# Altium footprint library Pixy2PCBLib.PcbLib: 17 footprints (part 1 of 2)
Each footprint in its own frame and in the unit in brackets; x right, y up, seen from the top. Pads: shape width x height; smd on the part's side, far side on the other; paste and mask are expansions set on the pad; w line width, h text height; cw(c..) or ccw(c..) is an arc to the next point about the centre after c.
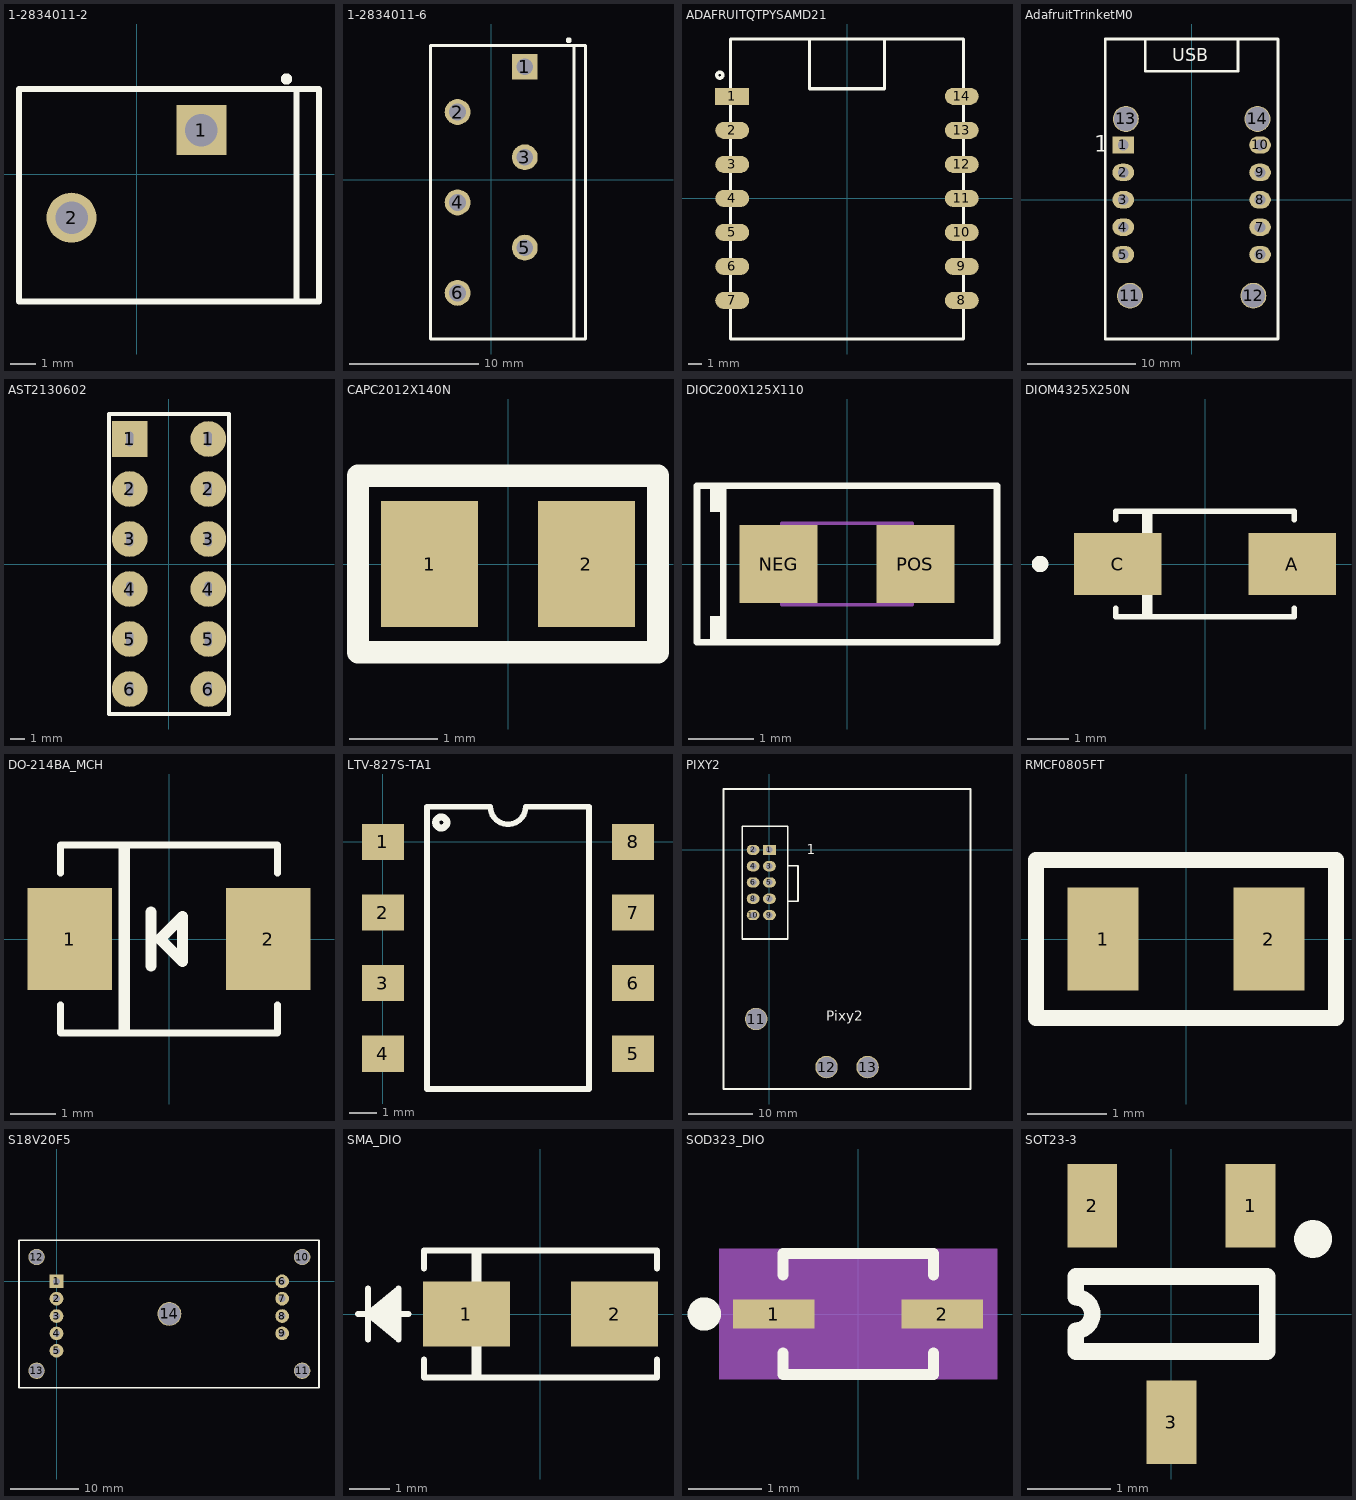
[diagram p0: the footprints below, top view; thin cyan lines are the x and y axes]

## 1-2834011-2 [mm]
pads (2):
  rect 2x2 hole 1.3: 1(2.6,1.75)
  round 2 hole 1.3: 2(-2.6,-1.75)
Top Overlay:
  circle w0.254: c6,3.8 r0.1
  lines w0.254: 6.4,-5.1 6.4,3.4 ; -4.7,-5.1 7.3,-5.1 7.3,3.4 -4.7,3.4 -4.7,-5.1
3D body "c-1-2834011-2-2-3d.stp": height 12.94, standoff -3.49, extent -4.7,-5.15 7.3,3.35

## 1-2834011-6 [mm]
pads (6):
  rect 2x2 hole 1.3: 1(2.6,8.75)
  round 2 hole 1.3: 2(-2.6,5.25) 3(2.6,1.75) 4(-2.6,-1.75) 5(2.6,-5.25) 6(-2.6,-8.75)
Top Overlay:
  circle w0.254: c6,10.8 r0.1
  lines w0.254: 6.4,-12.192 6.4,10.4 ; -4.7,-12.319 7.3,-12.319 7.3,10.4 -4.7,10.4 -4.7,-12.319
3D body "c-1-2834011-6-2-3d.stp": height 12.94, standoff -3.49, extent -4.73,-12.266 7.27,10.234

## ADAFRUITQTPYSAMD21 [mil]
pads (14):
  rect 100x50 smd: 1(-337.5,300)
  oval 100x50 smd: 2(-337.5,200) 3(-337.5,100) 4(-337.5,0) 5(-337.5,-100) 6(-337.5,-200) 7(-337.5,-300) 8(337.5,-300) 9(337.5,-200) 10(337.5,-100) 11(337.5,0) 12(337.5,100) 13(337.5,200) 14(337.5,300)
Top Overlay:
  circle w10: c-374.02,362.2 r8.8
  lines w10: -110.24,468.5 -110.24,322.83 110.24,322.83 110.24,464.57 ; -342.52,-413.39 -342.52,468.5 342.52,468.5 342.52,-413.39 -342.52,-413.39
3D body "Seeeduino Xiao.step": height 168.61, standoff 0.5, extent -350.39,-417.32 350.39,468.5

## AdafruitTrinketM0 [mm]
pads (14):
  rect 2x1.6 hole 1: 1(-6.337,5.08)
  oval 2x1.6 hole 1: 2(-6.337,2.54) 3(-6.337,0) 4(-6.337,-2.54) 5(-6.337,-5.08) 6(6.338,-5.08) 7(6.338,-2.54) 8(6.338,0) 9(6.338,2.54) 10(6.338,5.08)
  round 2.4 hole 2.2: 11(-5.715,-8.89) 12(5.715,-8.89) 13(-6.096,7.493) 14(6.096,7.493)
Top Overlay:
  lines w0.254: -4.3,14.9 -4.3,11.9 4.3,11.9 4.3,14.9 ; -8,-12.9 -8,14.9 8,14.9 8,-12.9 -8,-12.9
  text "USB" at -1.8,12.423 h2.03
  text "1" at -9.046,4.454 h1.52
3D body "TrinketM0.STEP": height 7.77, standoff 3.44, extent -7.62,-12.685 7.62,13.985
3D body "DW-05-07-T-S-200.stp": height 8.14, standoff -2.78, extent 5.068,-6.35 7.608,6.35
3D body "DW-05-07-T-S-200.stp": height 8.14, standoff -2.78, extent -7.607,-6.35 -5.067,6.35

## AST2130602 [mm]
pads (12):
  rect 2.5x2.5 hole 0.509 slot 1 at 90 deg: 1(-2.75,8.75)
  round 2.5 hole 0.509 slot 1 at 90 deg: 1(2.75,8.75) 2(-2.75,5.25) 2(2.75,5.25) 3(-2.75,1.75) 3(2.75,1.75) 4(-2.75,-1.75) 4(2.75,-1.75) 5(-2.75,-5.25) 5(2.75,-5.25) 6(-2.75,-8.75) 6(2.75,-8.75)
Top Overlay:
  lines w0.254: -4.2,-10.5 4.2,-10.5 4.2,10.5 -4.2,10.5 -4.2,-10.5
3D body "AST2130602.STEP": height 14.21, standoff -3.49, extent -4.278,-10.505 4.222,10.495

## CAPC2012X140N [mm]
pads (2):
  rect 1.1x1.43 smd: 1(-0.888,0) 2(0.888,0)
Top Overlay:
  lines w0.254: -1.7,-1 1.7,-1 1.7,1 -1.7,1 -1.7,-1
3D body "CL21A106KOQNNNG.STEP": height 1.26, standoff 0.01, extent -1,-0.675 1,0.675

## DIOC200X125X110 [mm]
pads (2):
  rect 1.2x1.2 smd: NEG(-1.05,0) POS(1.05,0)
Top Overlay:
  rectangle: -2.1,-1.2 -1.9,-0.8
  rectangle: -2.1,0.8 -1.9,1.2
  lines w0.1: -1.9,-1.2 -1.9,1.2 ; -2.3,-1.2 2.3,-1.2 2.3,1.2 -2.3,1.2 -2.3,-1.2
Mechanical 13:
  lines w0.05: -1,-0.625 -1,0.625 1,0.625 1,-0.625 -1,-0.625
3D body "Diode_Lite-On_LTST-C171KGKT_eec.STEP": height 0.9, standoff 0, extent -1,-0.625 1,0.625

## DIOM4325X250N [mm]
pads (2):
  rect 2.12x1.5 smd: A(2.115,0) C(-2.115,0)
Top Overlay:
  circle w0.2: c-4,0 r0.1
  lines w0.127: -2.165,-1.07 -2.165,-1.28 2.165,-1.28 2.165,-1.07 ; -2.165,1.07 -2.165,1.28 2.165,1.28 2.165,1.07
  lines w0.254: -1.4,-1.2 -1.4,1.2
3D body "SMA_DIO.step": height 2.35, standoff 0, extent -2.795,-1.46 2.795,1.46

## DO-214BA_MCH [mil]
pads (2):
  rect 74x89 smd paste+0 mask+0: 1(-87,0) 2(87,0)
Top Overlay:
  lines w6: -95,-57.6 -95,-82.5 95,-82.5 95,-57.6 ; -95,57.6 -95,82.5 95,82.5 95,57.6
  lines w10: -39.37,-78.74 -39.37,78.74 ; -15.75,-23.62 -15.75,23.62 ; 11.81,19.68 11.81,19.68 ; 11.81,19.68 -7.87,0 11.81,-19.69 11.81,19.68
3D body "DO-214BA.STEP": height 116.74, standoff 0.5, extent -103.35,-51.18 103.35,51.18
3D body: height 10, standoff 0, extent 11.81,-19.69 21.81,-9.69

## LTV-827S-TA1 [mm]
pads (8):
  rect 1.5x1.3 smd: 1(0,0) 2(0,-2.54) 3(0,-5.08) 4(0,-7.62) 5(9,-7.62) 6(9,-5.08) 7(9,-2.54) 8(9,0)
Top Overlay:
  circle w0.254: c2.1,0.7 r0.2
  lines w0.2: 1.585,-8.89 7.415,-8.89 7.415,1.27 5.135,1.27 cw(c4.5,1.27) 3.865,1.27 1.585,1.27 1.585,-8.89
3D body "SMD DIP 8 (op7) vishay.STEP": height 4.26, standoff 0.01, extent -0.525,-8.685 9.525,1.065

## PIXY2 [mm]
pads (13):
  rect 2x1.6 hole 1.02: 1(0,0)
  oval 2x1.6 hole 1.02: 2(-2.54,0) 3(0,-2.54) 4(-2.54,-2.54) 5(0,-5.08) 6(-2.54,-5.08) 7(0,-7.62) 8(-2.54,-7.62) 9(0,-10.16) 10(-2.54,-10.16)
  round 3.5 hole 3.2: 11(-2.07,-26.38) 12(8.91,-33.88) 13(15.31,-33.88)
Top Overlay:
  lines w0.254: 2.86,-8 4.46,-8 4.46,-2.5 2.86,-2.5 ; -7.17,-37.3 31.38,-37.3 31.38,9.5 -7.17,9.5 -7.17,-37.3 ; -4.24,-13.9 -4.24,3.7 2.86,3.7 2.86,-13.9 -4.24,-13.9
  text "Pixy2" at 8.854,-26.638 h1.52
  text "1" at 5.854,-0.646 h1.52
3D body "Pixy 2.STEP": height 15.31, standoff -0.34, extent -7.4,-37.45 31.774,9.45
3D body "SFH11-xxPC-D05-ST-BK.STEP": height 8.51, standoff -3.19, extent -4.24,-13.91 2.86,3.71

## RMCF0805FT [mm]
pads (2):
  rect 0.9x1.3 smd: 1(-1.05,0) 2(1.05,0)
Top Overlay:
  lines w0.2: -1.9,-1 -1.9,1 1.9,1 1.9,-1 -1.9,-1
3D body "RMCF0805FT100R.STEP": height 0.66, standoff 0.01, extent -1,-0.625 1,0.625

## S18V20F5 [mm]
pads (14):
  rect 2x2 hole 1.02: 1(0,0)
  round 2 hole 1.02: 2(0,-2.54) 3(0,-5.08) 4(0,-7.62) 5(0,-10.16) 6(33.02,0) 7(33.02,-2.54) 8(33.02,-5.08) 9(33.02,-7.62)
  round 2.4 hole 2.184: 10(35.941,3.556) 11(35.941,-13.081) 12(-2.921,3.556) 13(-2.921,-13.081)
  round 3.5 hole 3.2: 14(16.51,-4.763)
Top Overlay:
  lines w0.254: -5.49,-15.58 38.41,-15.58 38.41,6.02 -5.49,6.02 -5.49,-15.58
3D body "DW-04-07-T-S-200.stp": height 8.14, standoff -2.78, extent 31.74,-8.86 34.28,1.3
3D body "DW-05-07-T-S-200.stp": height 7.89, standoff -3.04, extent -1.27,-11.43 1.27,1.27
3D body "s18v20x-step-up-step-down-voltage-regulator.step": height 14.67, standoff 5.09, extent -5.14,-15.235 38.04,5.72

## SMA_DIO [mm]
pads (2):
  rect 2.18x1.63 smd paste+0 mask+0: 1(-1.857,0) 2(1.857,0)
Top Overlay:
  lines w0.152: -4.573,0 -3.303,0 ; -4.319,-0.635 -4.319,0.635 ; -3.557,-0.508 -4.319,0 ; -3.557,-0.381 -4.319,0 ; -3.557,-0.254 -4.319,0 ; -3.557,-0.127 -4.319,0 ; -3.557,0.127 -4.319,0 ; -3.557,0.254 -4.319,0 ; -3.557,0.381 -4.319,0 ; -3.557,0.508 -4.319,0 ; -2.922,-1.148 -2.922,-1.587 2.922,-1.587 2.922,-1.148 ; -2.922,1.148 -2.922,1.587 2.922,1.587 2.922,1.148 ; -4.319,0 -3.557,0.635 -3.557,-0.635 -4.319,0
  lines w0.254: -1.6,-1.5 -1.6,1.5
3D body "SMA_DIO.step": height 2.35, standoff 0, extent -2.795,-1.46 2.795,1.46

## SOD323_DIO [mm]
pads (2):
  rect 1.111x0.401 smd paste+0 mask+0: 1(-1.15,0) 2(1.15,0)
Top Overlay:
  circle w0.254: c-2.1,0 r0.1
  lines w0.152: -1.027,-0.533 -1.027,-0.827 1.027,-0.827 1.027,-0.533 ; -1.027,0.533 -1.027,0.827 1.027,0.827 1.027,0.533
Mechanical 5:
  region: 1.896,-0.891 -1.896,-0.891 -1.896,0.891 1.896,0.891
Mechanical 13:
  lines w0.025: -0.9,-0.35 -0.55,-0.7 ; -0.9,0.35 -0.55,0.7 ; -1.35,-0.175 -1.35,0.175 -0.9,0.175 -0.9,-0.175 -1.35,-0.175 ; -0.9,-0.7 0.9,-0.7 0.9,0.7 -0.9,0.7 -0.9,-0.7 ; 0.9,-0.175 0.9,0.175 1.35,0.175 1.35,-0.175 0.9,-0.175
  text "*" at -0.964,-0.635 h1.27
3D body "SOD323_DIO.step": height 0.81, standoff 0, extent -1.35,-0.7 1.35,0.7

## SOT23-3 [mm] "SOT23-3"
pads (3):
  rect 0.6x1 smd: 1(0.95,1.3) 2(-0.95,1.3) 3(0,-1.3)
Top Overlay:
  circle w0.254: c1.7,0.9 r0.1
  lines w0.2: -1.15,-0.45 -1.15,-0.2 ccw(c-1.15,0) -1.15,0.2 -1.15,0.45 1.15,0.45 1.15,-0.45 -1.15,-0.45
3D body "SOT23-3.step": height 1.3, standoff 0, extent -1.45,-1.4 1.45,1.4